# Altium footprint library M5333B.PcbLib: 1 footprints
Each footprint in its own frame and in the unit in brackets; x right, y up, seen from the top. Pads: shape width x height; smd on the part's side, far side on the other; paste and mask are expansions set on the pad; w line width, h text height; cw(c..) or ccw(c..) is an arc to the next point about the centre after c.
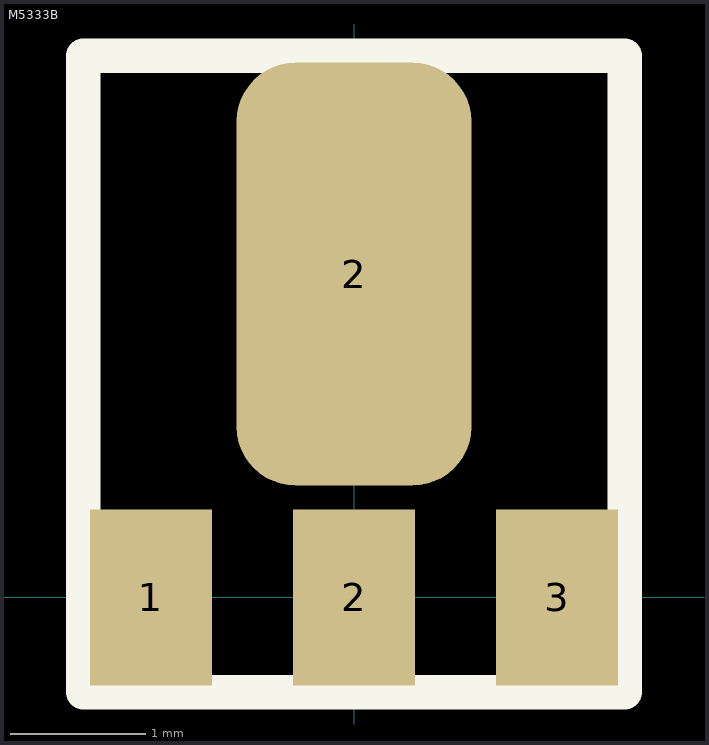
[diagram p0: the footprint, top view; thin cyan lines are the x and y axes]

## M5333B [mm]
height 0.1
pads (4):
  rect 0.9x1.3 smd: 1(-1.5,0) 2(0,0) 3(1.5,0)
  rrect50% 1.733x3.125 smd: 2(0,2.388)
Top Overlay:
  lines w0.254: -2,-0.7 2,-0.7 2,4 -2,4 -2,-0.7